# EAGLE library part HRS1H-S_DC5V (library HRS1H-S_DC5V)
MULTICOMP - HRS1H-S DC5V - RELAY, SIGNAL, SPDT, 120VAC, 24VDC, 3A Source: Datasheet <http://www.farnell.com/datasheets/1306691.pdf>
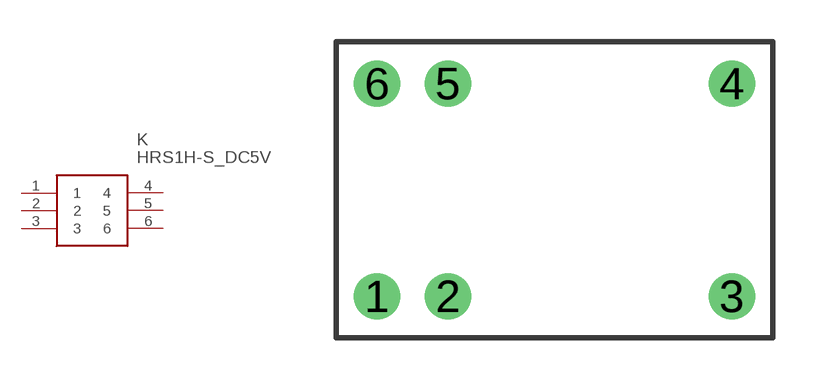
[diagram p0: symbol with the pads of HRS1H-S; footprint HRS1H-S]

Designator prefix K

## HRS1H-S_DC5V (Description: MULTICOMP - HRS1H-S DC5V - RELAY, SIGNAL, SPDT, 120VAC, 24VDC, 3A; Height: mm; Manufacturer_Name: MULTICOMP; Manufacturer_Part_Number: HRS1H-S DC5V)  [HRS1H-S]
1  1
2  2
3  3
4  4
5  5
6  6

## Footprint HRS1H-S (pad centres in mm)
HRS1H-S
drill 1.1 pad 1.65: 1 -6.35,-3.81; 2 -3.81,-3.81; 3 6.35,-3.81; 4 6.35,3.81; 5 -3.81,3.81; 6 -6.35,3.81